# Altium schematic symbol library DaughterCard.SCHLIB: 19 symbols
Pins are listed as number, name and electrical type; pins without a type are passive.

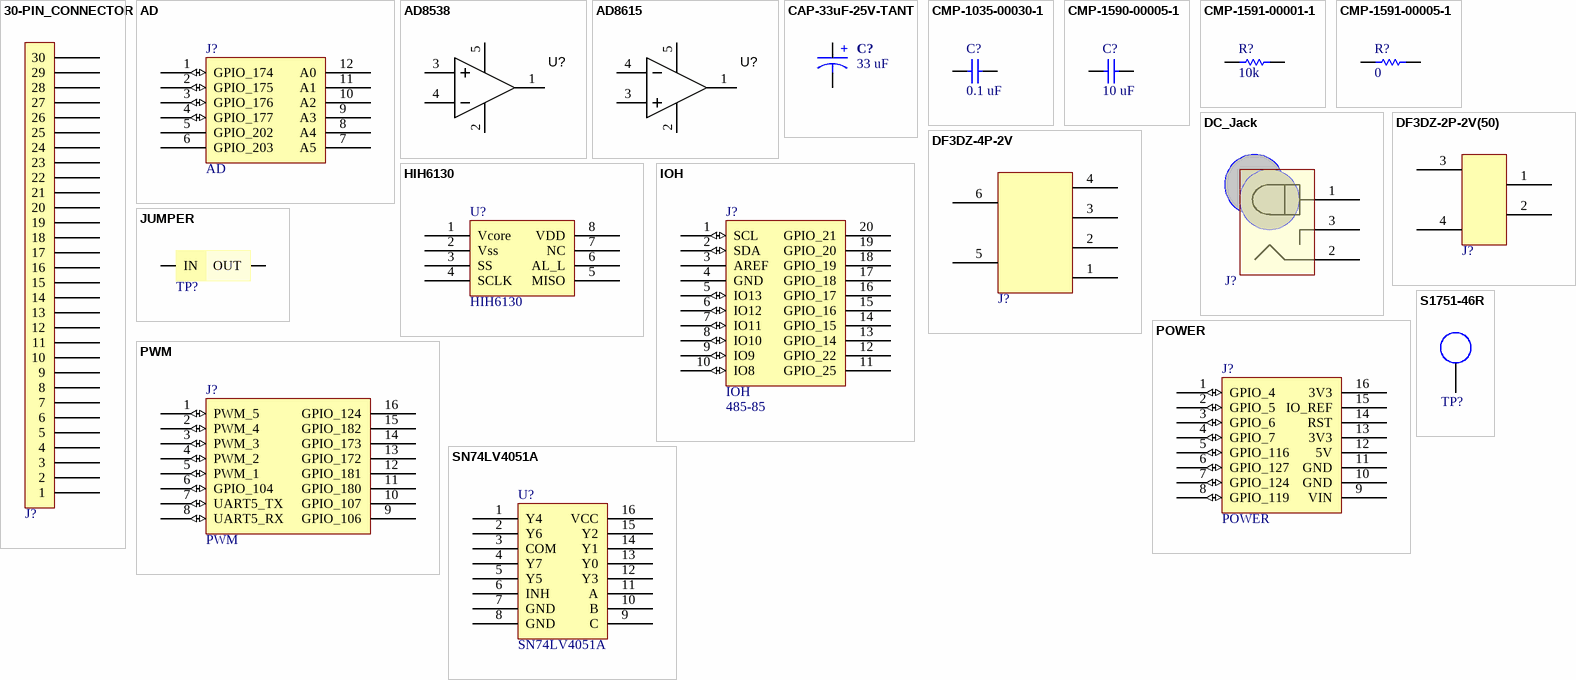
[diagram p0: symbols 30-PIN_CONNECTOR to SN74LV4051A]

## 30-PIN_CONNECTOR
designator J?
CONN HEADER 30POS MOLEX; MANUFACTURER: SAMTEC; CONNECTOR PART #:: S2M-115-02-F-D-TR; CABLE PART #:: T2SD-15-24C-L-08.00-D-NDX
footprint S2M-115-02-F-D-TR
pins: 1, 2, 3, 4, 5, 6, 7, 8, 9, 10, 11, 12, 13, 14, 15, 16, 17, 18, 19, 20, 21, 22, 23, 24, 25, 26, 27, 28, 29, 30

## AD
designator J?
Manufacturer: Adafruit; Manufacturer Part Number: 85; Supplier 1: Mouser; RoHS: RoHS Compliant; Category: Adafruit Accessories; Stock 1: 587; Pricing 1: 1=1.95, 10=1.76 (USD); Product: Connectors; Type: Headers & Wire Housings; Brand: Adafruit; Standard Pack Qty: 1; RoHS - Mouser: Y; Minimum Order Quantity: 1; Reeling: False; Supplier Part Number 1: 485-85
footprint Header 6x2 8.5mm (Stackable 12 pin header)
pins: 1 GPIO_174 (io), 2 GPIO_175 (io), 3 GPIO_176 (io), 4 GPIO_177 (io), 5 GPIO_202, 6 GPIO_203, 7 A5, 8 A4, 9 A3, 10 A2, 11 A1, 12 A0

## AD8538
designator U?  (value not drawn)
IC SMD Atuo-Zero Op Amp Precision, Low Power; Manufacturer: Analog Devices; Manufacturer Part Number: AD8538AUJZ-REEL7; Number of Channels: 1 Channel; Shutdown: No Shutdown; CMRR - Common Mode Rejection Ratio: 150 dB; en - Input Voltage Noise Density: 50 nV/sqrt Hz at 5 V; GBP - Gain Bandwidth Product: 430 kHz; Ib - Input Bias Current: 25 pA; Maximum Dual Supply Voltage: +/- 2.5 V; Minimum Dual Supply Voltage: +/- 1.35 V; Operating Supply Current: 180 uA; Operating Supply Voltage: 2.7 V to 5.5 V; PSRR - Power Supply Rejection Ratio: 125 dB; SR - Slew Rate: 0.4 V/us at 5 V; Supply Voltage - Max: 5.5 V; Supply Voltage - Min: 2.7 V; Voltage Gain dB: 141 dB; Vos - Input Offset Voltage: 5 uV; Supplier 1: Mouser; RoHS: RoHS Compliant; Category: Precision Amplifiers; Stock 1: 8750; Pricing 1: 1=1.39, 10=1.26, 25=1.12, 100=1.01, 250=0.900, 500=0.788, 1000=0.652, 3000=0.606, 6000=0.601 (USD); Height: 0.87 mm; Length: 2.9 mm; Package / Case: TSOT-5; Packaging: Reel; Product: Precision Amplifiers; Series: AD8538; Type: General Purpose Amplifier; Width: 1.6 mm; Brand: Analog Devices; Mounting Style: SMD/SMT; Maximum Operating Temperature: + 125 C; Minimum Operating Temperature: - 40 C; Standard Pack Qty: 3000; RoHS - Mouser: Y; Minimum Order Quantity: 1; Reeling: True; ComponentLink1URL: http://www.mouser.com/ds/2/609/AD8538_8539-877837.pdf; ComponentLink1Description: http://www.mouser.com/ds/2/609/AD8538_8539-877837.pdf; Supplier Part Number 1: 584-AD8538AUJZ-R7
footprint SOT23-5
pins: 1 OUT, 2 V-, 3 IN+, 4 IN-, 5 V+

## AD8615
designator U?  (value not drawn)
IC SMD Transimpedance Op Amp Precision; Manufacturer: Analog Devices; Manufacturer Part Number: AD8615AUJZ-REEL7; Output Type: Rail to Rail Input/Output; Input Voltage Range - Max: 5 V; Number of Channels: 1 Channel; Shutdown: No Shutdown; CMRR - Common Mode Rejection Ratio: 100 dB; en - Input Voltage Noise Density: 10 nV/sqrt Hz at 5 V; GBP - Gain Bandwidth Product: 24 MHz; Ib - Input Bias Current: 550 pA; Operating Supply Current: 1.7 mA; Operating Supply Voltage: 2.7 V to 5 V; Output Current per Channel: 150 mA; PSRR - Power Supply Rejection Ratio: 90 dB; SR - Slew Rate: 12 V/us; Supply Voltage - Min: 2.7 V; Voltage Gain dB: 123.52 dB; Vos - Input Offset Voltage: 80 uV; Supplier 1: Mouser; RoHS: RoHS Compliant; Category: Precision Amplifiers; Stock 1: 7346; Pricing 1: 1=2.11, 10=1.91, 25=1.71, 100=1.53, 250=1.36, 500=1.19, 1000=0.992, 3000=0.921, 6000=0.913 (USD); Height: 0.87 mm; Length: 2.9 mm; Package / Case: TSOT-5; Packaging: Reel; Product: Precision Amplifiers; Series: AD8615; Type: General Purpose Amplifier; Width: 1.6 mm; Brand: Analog Devices; Mounting Style: SMD/SMT; Maximum Operating Temperature: + 125 C; Minimum Operating Temperature: - 40 C; Standard Pack Qty: 3000; Supply Voltage - Max: 5 V; RoHS - Mouser: Y; Minimum Order Quantity: 1; Reeling: True; ComponentLink1URL: http://www.mouser.com/ds/2/609/AD8615_8616_8618-877841.pdf; ComponentLink1Description: http://www.mouser.com/ds/2/609/AD8615_8616_8618-877841.pdf; Supplier Part Number 1: 584-AD8615AUJZ-R7
footprint SOT23-5
pins: 1 OUT, 2 V-, 3 IN+, 4 IN-, 5 V+

## CAP-33uF-25V-TANT
designator C?  Capacitance: 33 uF  (hidden comment: CAP-33uF-25V-TANT)
CAP, 33 uF; Manufacturer: AVX; Manufacturer Part Number: TPSD336K025R0100; Mfr Case Code: D Case; Tolerance: 10 %; Voltage Rating: 25 V; ESR: 100 mOhms; Leakage Current: 8.3 uA; Dissipation Factor DF: 6; Qualification: Commercial; Ripple Current: 0.49 mA; Supplier 1: Mouser; RoHS: RoHS Compliant; Category: Tantalum Capacitors - Solid SMD; Stock 1: 757; Pricing 1: 1=2.67, 100=1.85, 500=1.26, 1000=1.10, 2000=1.06, 4000=1.02, 6000=1.01, 8000=0.994, 10000=0.987 (USD); Height: 3.1 mm; Length: 7.3 mm; Operating Temperature Range: - 55 C to + 125 C; Package / Case: 2917 (7343 metric); Packaging: Reel; Product: Tantalum Solid Low ESR Standard Grade; Series: TPS; Termination Style: SMD/SMT; Width: 4.3 mm; Brand: AVX; Case Code - in: 2917; Case Code - mm: 7343; Maximum Operating Temperature: + 125 C; Minimum Operating Temperature: - 55 C; Standard Pack Qty: 500; RoHS - Mouser: Y; Minimum Order Quantity: 1; Reeling: True; ComponentLink1URL: http://www.mouser.com/ds/2/40/tps-776850.pdf; ComponentLink1Description: http://www.mouser.com/ds/2/40/tps-776850.pdf; Supplier Part Number 1: 581-TPSD336K025R0100
footprint TANT CASE D (TANT capacitor, 7.3x4.3mm, 2917, IPC Nominal settings)
pins: 1 POSITIVE, 2 NEGATIVE
text: +

## CMP-1035-00030-1
designator C?, comment Capacitance: 0.1 uF  (hidden comment: CAP 1uF 25V 0603(1608))
CAP 0.1uF 25V ±5% 0603 (1608 Metric) Thickness 1mm SMD; Manufacturer: Yageo; Manufacturer Part Number: CC0603JRX7R8BB104; Type: Multilayer Ceramic Chip Capacitor; Voltage Rating DC: 25 VDC; Dielectric: X7R; Supplier 1: Mouser; Supplier Part Number 1: 603-CC603JRX7R8BB104; RoHS: RoHS Compliant By Exemption; Category: Multilayer Ceramic Capacitors MLCC - SMD/SMT; Stock 1: 122530; Pricing 1: 1=0.100, 10=0.021, 100=0.010, 1000=0.008, 4000=0.005, 48000=0.004 (USD); Length: 1.6 mm; Package / Case: 0603 (1608 metric); Packaging: Reel; Product: General Type MLCCs; Termination Style: SMD/SMT; Tolerance: 5 %; Width: 0.8 mm; Brand: Yageo; Case Code - in: 0603; Case Code - mm: 1608; Maximum Operating Temperature: + 125 C; Minimum Operating Temperature: - 55 C; Standard Pack Qty: 4000; RoHS - Mouser: E; Minimum Order Quantity: 1; Reeling: True; ComponentLink1URL: http://www.mouser.com/ds/2/447/UPY-GPHC_X7R_6.3V-to-50V_10-595240.pdf; ComponentLink1Description: http://www.mouser.com/ds/2/447/UPY-GPHC_X7R_6.3V-to-50V_10-595240.pdf
footprint CAPC0603(1608)100_L (Chip Capacitor, Body 1.6x0.8mm, Height 1.0mm, IPC High Density)
footprint CAPC0603(1608)100_N (Chip Capacitor, Body 1.6x0.8mm, Height 1.0mm, IPC Medium Density)
footprint CAPC0603(1608)100_M (Chip Capacitor, Body 1.6x0.8mm, Height 1.0mm, IPC Low Density)
pins: 1, 2
1 alternate drawing of the same symbol

## CMP-1590-00005-1
designator C?, comment Capacitance: 10 uF  (hidden comment: CAP0603)
0603 (1608 Metric) Chip Capacitor; Manufacturer: Murata Electronics; Manufacturer Part Number: GRM188R61E106MA73D; Tolerance: 20 %; Type: General Purpose Ceramic Capacitors; Voltage Rating DC: 25 VDC; Class: Class 2; Dielectric: X5R; Product Status: New Product; Supplier 1: Mouser; Supplier Part Number 1: 81-GRM188R61E106MA3D; RoHS: RoHS Compliant; Category: Multilayer Ceramic Capacitors MLCC - SMD/SMT; Stock 1: 160979; Pricing 1: 1=0.360, 10=0.191, 100=0.126, 500=0.114, 1000=0.103, 4000=0.076, 8000=0.069, 24000=0.067 (USD); Height: 0.8 mm; Length: 1.6 mm; Package / Case: 0603 (1608 metric); Packaging: Reel; Product: General Type MLCCs; Series: GRM; Termination Style: SMD/SMT; Width: 0.8 mm; Brand: Murata Electronics; Case Code - in: 0603; Case Code - mm: 1608; Maximum Operating Temperature: + 85 C; Minimum Operating Temperature: - 55 C; Standard Pack Qty: 4000; RoHS - Mouser: Y; Minimum Order Quantity: 1; Reeling: True
footprint CAPC0603(1608)100_L
pins: 1, 2
1 alternate drawing of the same symbol

## CMP-1591-00001-1
designator R?, comment Resistance: 10k  (hidden comment: RES0603)
0603 (1608 Metric) Chip Resistor; Manufacturer: Susumu; Manufacturer Part Number: RR0816P-103-D; Power Rating: 62.5 mW (1/16 W); Temperature Coefficient: 25 PPM / C; Tolerance: 0.5 %; Voltage Rating: 75 V; Supplier 1: Mouser; Supplier Part Number 1: 754-RR0816P-103D; RoHS: RoHS Compliant; Category: Thin Film Resistors - SMD; Stock 1: 175779; Pricing 1: 1=0.100, 10=0.050, 100=0.022, 1000=0.015, 2000=0.011, 5000=0.011, 10000=0.009, 50000=0.008 (USD); Height: 0.4 mm; Length: 1.6 mm; Operating Temperature Range: - 55 C to + 125 C; Package / Case: 0603 (1608 metric); Packaging: Reel; Product: Thin Film Resistors SMD; Termination Style: SMD/SMT; Width: 0.8 mm; Brand: Susumu; Case Code - in: 0603; Case Code - mm: 1608; Standard Pack Qty: 5000; RoHS - Mouser: Y; Minimum Order Quantity: 1; Reeling: True; ComponentLink1URL: http://www.mouser.com/ds/2/392/susumu_RR_Data_Sheet-358748.pdf; ComponentLink1Description: http://www.mouser.com/ds/2/392/susumu_RR_Data_Sheet-358748.pdf
footprint RESC0603(1608)_L
pins: 1, 2
1 alternate drawing of the same symbol

## CMP-1591-00005-1
designator R?, comment Resistance: 0  (hidden comment: RES1206)
1206 (3216 Metric) Chip Resistor; Manufacturer: KOA Speer; Manufacturer Part Number: RK73Z2BTTD; Qualification: Commercial; Supplier 1: Mouser; Supplier Part Number 1: 660-RK73Z2BTTD; RoHS: RoHS Compliant By Exemption; Category: Thick Film Resistors - SMD; Stock 1: 500457; Pricing 1: 1=0.100, 10=0.017, 100=0.008, 1000=0.005, 5000=0.005, 10000=0.004, 50000=0.003 (USD); Height: 0.6 mm; Length: 3.2 mm; Operating Temperature Range: - 55 C to + 155 C; Package / Case: 1206 (3216 metric); Packaging: Reel; Power Rating: -; Product: Thick Film Resistors Zero-Ohm; Series: RK73Z; Temperature Coefficient: -; Termination Style: SMD/SMT; Tolerance: -; Voltage Rating: -; Width: 1.6 mm; Brand: KOA Speer; Case Code - in: 1206; Case Code - mm: 3216; Standard Pack Qty: 5000; RoHS - Mouser: E; Minimum Order Quantity: 1; Reeling: True; ComponentLink1URL: http://www.mouser.com/ds/2/219/RK73Z-11765.pdf; ComponentLink1Description: http://www.mouser.com/ds/2/219/RK73Z-11765.pdf
footprint RESC1206(3216)_L
pins: 1, 2
1 alternate drawing of the same symbol

## DC_Jack
designator J?  (value not drawn)
Manufacturer: Kobiconn; Manufacturer Part Number: 163-179PH-EX; Connector Type: DC Power Jack; Current Rating: 1.5 A; Inside Contact Diameter: 2.1 mm; Mounting Angle: Right; Outside Contact Diameter: 5.5 mm; Voltage Rating: 18 V; Center Pin Length: 8 mm; Supplier 1: Mouser; RoHS: RoHS Compliant By Exemption; Category: DC Power Connectors; Stock 1: 6997; Pricing 1: 1=1.04, 10=0.800, 100=0.730, 500=0.660, 1000=0.607, 2000=0.559, 5000=0.514, 10000=0.473, 25000=0.435 (USD); Packaging: Bulk; Product: Jacks; Termination Style: Through Hole; Brand: Kobiconn; Contact Gender: Female; RoHS - Mouser: E; Minimum Order Quantity: 1; Reeling: False; ComponentLink1URL: http://www.mouser.com/ds/2/253/KC-301287-195995.pdf; ComponentLink1Description: http://www.mouser.com/ds/2/253/KC-301287-195995.pdf; Supplier Part Number 1: 163-179PH-EX
footprint Jack_Male (Jack_2.5A_16V_Through_Hole)
pins: 1 Tip, 2 Sleeve, 3 Insertion Detection

## DF3DZ-2P-2V(50)
designator J?  (value not drawn)
CONN HEADER 2POS 2MM VERT GOLD; Manufacturer: Hirose Electric Co Ltd; Connector Type: Header, Shrouded; Number of Positions: 2; Number of Positions Loaded: All; Pitch: 0.079" (2.00mm); Supplier 1: Digi-Key; RoHS: RoHS Compliant; Stock 1: 2108; Pricing 1: 1=0.7, 10=0.66, 50=0.528, 100=0.506, 250=0.462, 500=0.44, 1000=0.363, 2500=0.33, 5000=0.319 (USD); Packaging: Tube; Contact Type: Male Pin; Number of Rows: 1; Row Spacing: -; Contact Mating Length: -; Mounting Type: Surface Mount; Termination: Solder; Fastening Type: -; Features: -; Contact Finish: Gold; Contact Finish Thickness: -; Color: Beige; ComponentLink1URL: http://www.hirose.co.jp/cataloge_hp/2d/EDCX3-305938-12.pdf; ComponentLink1Description: http://www.hirose.co.jp/cataloge_hp/2d/EDCX3-305938-12.pdf; Supplier Part Number 1: HR2086-ND; Manufacturer Part Number: DF3DZ-2P-2V(50); Category: Connectors, Interconnects
footprint DF3DZ-2P-2V(50) (CONN HEADER 2POS 2MM VERT GOLD)
pins: 1, 2, 3, 4

## DF3DZ-4P-2V
designator J?, comment DF3DZ-4P-2V(21)  (value not drawn)
CONN RECEPT HOUSING 4POS 2MM VERT HIROSE; Manufacturer: Hirose Electric Co Ltd; Connector Type: Header, Shrouded; Number of Positions: 4; Number of Positions Loaded: All; Pitch: 0.079" (2.00mm); Supplier 1: Digi-Key; Manufacturer Part Number: DF3DZ-4P-2V(21); RoHS: RoHS Compliant; Category: Connectors, Interconnects; Stock 1: 4651; Pricing 1: 1=0.84, 10=0.792, 25=0.7128, 50=0.6336, 100=0.6072, 250=0.5544, 500=0.528 (USD); Packaging: Cut Tape (CT); Contact Type: Male Pin; Number of Rows: 1; Row Spacing: -; Contact Mating Length: -; Mounting Type: Surface Mount; Termination: Solder; Fastening Type: -; Features: Solder Retention; Contact Finish: Tin; Contact Finish Thickness: -; Color: Beige; ComponentLink1URL: http://www.hirose.co.jp/cataloge_hp/2d/EDCX3-305938-11.pdf; ComponentLink1Description: http://www.hirose.co.jp/cataloge_hp/2d/EDCX3-305938-11.pdf; Supplier Part Number 1: H121940CT-ND
footprint DF3DZ-4P-2V
pins: 1, 2, 3, 4, 5, 6

## HIH6130
designator U?
Manufacturer: Honeywell Sensing and Productivity Solutions; Manufacturer Part Number: HIH6130-000-001; Sensor Type: Humidity, Temperature; Humidity Range: 0 ~ 100% RH; Output Type: SPI; Output: 14b; Accuracy: ±4% RH; Response Time: 6s; Voltage - Supply: 2.3 V ~ 5.5 V; Supplier 1: Digi-Key; RoHS: RoHS Compliant; Category: Sensors, Transducers; Stock 1: 912; Pricing 1: 1=13.75, 10=10.057, 25=9.4144, 50=8.8916, 100=8.3309 (USD); Sensitivity: -; Mounting Type: Surface Mount; Operating Temperature: -25°C ~ 85°C; ComponentLink1URL: http://sensing.honeywell.com/index.php?ci_id=142165; ComponentLink1Description: http://sensing.honeywell.com/index.php?ci_id=142165; Supplier Part Number 1: 480-6382-1-ND
footprint SOIC-8 (HIH6130)
pins: 1 Vcore, 2 Vss, 3 SS, 4 SCLK, 5 MISO, 6 AL_L, 7 NC, 8 VDD

## IOH
designator J?  Supplier Part Number 1: 485-85
Manufacturer: Adafruit; Manufacturer Part Number: 85; Supplier 1: Mouser; RoHS: RoHS Compliant; Category: Adafruit Accessories; Stock 1: 587; Pricing 1: 1=1.95, 10=1.76 (USD); Product: Connectors; Type: Headers & Wire Housings; Brand: Adafruit; Standard Pack Qty: 1; RoHS - Mouser: Y; Minimum Order Quantity: 1; Reeling: False
footprint Header 10x2 8.5mm (Stackable 20 pin header)
pins: 1 SCL (io), 2 SDA (io), 3 AREF, 4 GND, 5 IO13 (io), 6 IO12 (io), 7 IO11 (io), 8 IO10 (io), 9 IO9 (io), 10 IO8 (io), 11 GPIO_25, 12 GPIO_22, 13 GPIO_14, 14 GPIO_15, 15 GPIO_16, 16 GPIO_17, 17 GPIO_18, 18 GPIO_19, 19 GPIO_20, 20 GPIO_21

## JUMPER
designator TP?  (value not drawn)
Manufacturer: TE Connectivity / AMP; Manufacturer Part Number: 881545-2; Accessory Type: Jumper (Shunt); Current Rating: 3 A; Number of Positions: 2 Position; Pitch: 2.54 mm; Qualification: Commercial; Supplier 1: Mouser; RoHS: RoHS Compliant; Category: Headers & Wire Housings; Stock 1: 30896; Pricing 1: 1=0.270, 10=0.118, 100=0.115, 500=0.109, 1000=0.104, 5000=0.095, 10000=0.093 (USD); Contact Plating: Gold; Housing Material: Nylon; Product: Accessories; Series: AMP-LATCH; Termination Style: -; Type: -; Brand: TE Connectivity / AMP; Contact Material: Phosphor Bronze; Mounting Style: -; Contact Gender: Socket (Female); Standard Pack Qty: 14000; RoHS - Mouser: Y; Minimum Order Quantity: 1; Reeling: False; ComponentLink1URL: http://www.mouser.com/ds/2/418/NG_CD_881545_K3-637242.pdf; ComponentLink1Description: http://www.mouser.com/ds/2/418/NG_CD_881545_K3-637242.pdf; Supplier Part Number 1: 571-8815452
footprint JUMPER
pins: 1 IN, 2 OUT

## POWER
designator J?
footprint Header 8x2 8.5mm (16-Pin Stackable header)
pins: 1 GPIO_4 (io), 2 GPIO_5 (io), 3 GPIO_6 (io), 4 GPIO_7 (io), 5 GPIO_116 (io), 6 GPIO_127 (io), 7 GPIO_124 (io), 8 GPIO_119 (io), 9 VIN, 10 GND, 11 GND, 12 5V, 13 3V3, 14 RST, 15 IO_REF, 16 3V3

## PWM
designator J?
PWM & UART
footprint Header 8x2 8.5mm (16-Pin Stackable header)
pins: 1 PWM_5 (io), 2 PWM_4 (io), 3 PWM_3 (io), 4 PWM_2 (io), 5 PWM_1 (io), 6 GPIO_104 (io), 7 UART5_TX (io), 8 UART5_RX (io), 9 GPIO_106, 10 GPIO_107, 11 GPIO_180, 12 GPIO_181, 13 GPIO_172, 14 GPIO_173, 15 GPIO_182, 16 GPIO_124

## S1751-46R
designator TP?  (value not drawn)
PC TEST POINT TIN SMD; Manufacturer: Harwin Inc.; Supplier 1: Digi-Key; RoHS: RoHS Compliant; Stock 1: 275112; Pricing 1: 1=0.29, 10=0.272, 25=0.2324, 50=0.2032, 100=0.1888, 250=0.167, 500=0.15972, 1000=0.13068 (USD); Packaging: Cut Tape (CT); Type: PC Test Point; Terminal: 0.128" x 0.065" x 0.079" (3.25mm x 1.65mm x 2.00mm) Brass, Tin Plated; Mounting Type: Surface Mount; Material: Copper Alloy; Color: Natural; ComponentLink1URL: http://cdn.harwin.com/pdfs/S1751.pdf; ComponentLink1Description: http://cdn.harwin.com/pdfs/S1751.pdf; Supplier Part Number 1: 952-1478-1-ND; Manufacturer Part Number: S1751-46R; Category: Test and Measurement
footprint S1751-46R (PC TEST POINT TIN SMD)
pins: 1

## SN74LV4051A
designator U?
Manufacturer: Texas Instruments; Manufacturer Part Number: SN74LV4051ADR; Bandwidth: 35 Mhz; Configuration: 1 x 8:1; Supply Type: Single Supply; Number of Channels: 8 Channel; Off Time - Max: 28 ns; On Resistance - Max: 75 Ohms; Supply Current - Max: 20 uA; Operating Supply Voltage: 2 V to 5.5 V; Propagation Delay Time: 12 ns; Supply Voltage - Max: 5.5 V; Supply Voltage - Min: 2 V; Supplier 1: Mouser; RoHS: RoHS Compliant; Category: Multiplexer Switch ICs; Stock 1: 8062; Pricing 1: 1=0.430, 10=0.361, 100=0.220, 1000=0.170, 2500=0.145, 10000=0.135, 22500=0.128, 50000=0.120, 100000=0.118 (USD); Height: 1.58 mm; Length: 9.9 mm; Package / Case: SOIC-16; Packaging: Reel; Product: Multiplexers/Demultiplexers; Series: SN74LV4051A; Width: 3.91 mm; Brand: Texas Instruments; Mounting Style: SMD/SMT; On Time - Max: 28 ns; Maximum Operating Temperature: + 85 C; Minimum Operating Temperature: - 40 C; Standard Pack Qty: 2500; RoHS - Mouser: Y; Minimum Order Quantity: 1; Reeling: True; ComponentLink1URL: http://www.mouser.com/ds/2/405/sn74lv4051a-448117.pdf; ComponentLink1Description: http://www.mouser.com/ds/2/405/sn74lv4051a-448117.pdf; Supplier Part Number 1: 595-SN74LV4051ADR
footprint SOIC-16 (SOIC, 1.27mm pitch, 16 pin, Body 9.9x3.90mm)
pins: 1 Y4, 2 Y6, 3 COM, 4 Y7, 5 Y5, 6 INH, 7 GND, 8 GND, 9 C, 10 B, 11 A, 12 Y3, 13 Y0, 14 Y1, 15 Y2, 16 VCC